# EAGLE library part 16SEG-CA (library special)
20.32mm (0.8INCH) 16 SEGMENT SINGLE DIGIT
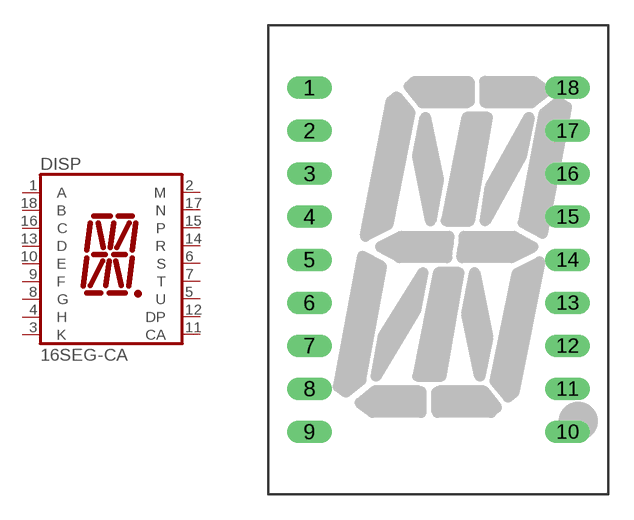
[diagram p14: symbol with the pads of 16SEG-20; footprint 16SEG-20]

Designator prefix DISP

## 16SEG-CA  [16SEG-20]
1  A  pas
2  M  pas
3  K  pas
4  H  pas
5  U  pas
6  S  pas
7  T  pas
8  G  pas
9  F  pas
10  E  pas
11  CA  pas
12  DP  pas
13  D  pas
14  R  pas
15  P  pas
16  C  pas
17  N  pas
18  B  pas

## Footprint 16SEG-20 (pad centres in mm)
drill 0.813 long: 1 -7.62,10.16; 2 -7.62,7.62; 3 -7.62,5.08; 4 -7.62,2.54; 5 -7.62,0; 6 -7.62,-2.54; 7 -7.62,-5.08; 8 -7.62,-7.62; 9 -7.62,-10.16; 10 7.62,-10.16; 11 7.62,-7.62; 12 7.62,-5.08; 13 7.62,-2.54; 14 7.62,0; 15 7.62,2.54; 16 7.62,5.08; 17 7.62,7.62; 18 7.62,10.16